# Altium footprint library USB Mini B VERT.PcbLib: 1 footprints
Each footprint in its own frame and in the unit in brackets; x right, y up, seen from the top. Pads: shape width x height; smd on the part's side, far side on the other; paste and mask are expansions set on the pad; w line width, h text height; cw(c..) or ccw(c..) is an arc to the next point about the centre after c.
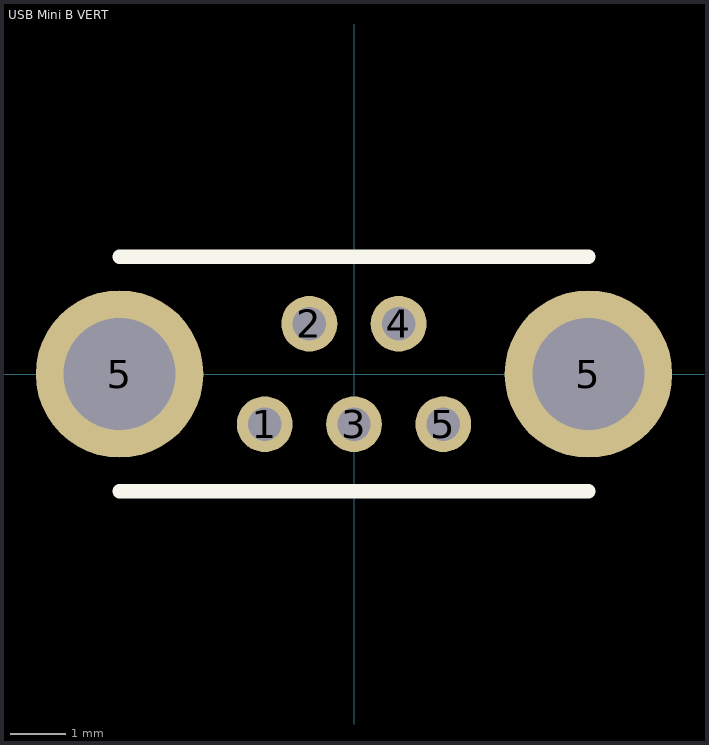
[diagram p0: the footprint, top view; thin cyan lines are the x and y axes]

## USB Mini B VERT [mm]
height 9.906
pads (7):
  round 1 hole 0.6: 1(-1.6,-0.9) 2(-0.8,0.9) 3(0,-0.9) 4(0.8,0.9) 5(1.6,-0.9)
  round 3 hole 2: 5(-4.2,0) 5(4.2,0)
TopOverlay:
  lines w0.254: -4.2,-2.1 4.2,-2.1 ; -4.2,2.1 4.2,2.1
Mechanical4:
  text ".340" at 0,0 h0.03
3D body: height 9.2, standoff -2.8, extent -5.098,-2.005 5.098,1.955